# Altium schematic symbol library bq2510xx.SchLib: 1 symbol
Pins are listed as number, name and electrical type; pins without a type are passive.

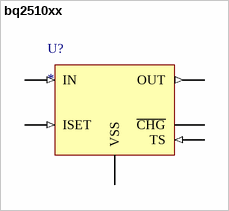
[diagram p0: symbol bq2510xx]

## bq2510xx
designator U?
250mA 1S Li-Ion Battery Charger
pins: A1 OUT (out), A2 IN (in), B1 TS (in), B2 ISET (in), C1 ~{CHG} (oc), C2 VSS (power)